# EAGLE library part SL13B-022_BHC1_0 (library SL13B-022_BHC1_0)
Switch: slide; Pos: 2; DPDT; 3A/250VAC; ON-ON; screw,THT; SL13B Source: Datasheet <https://www.tme.eu/pl/details/sl13b-022bhc1/przelaczniki-suwakowe/canal-electronic/sl13b-022-bhc1-0/?brutto=1&currency=PLN&gad_source=1&gclid=CjwKCAjw9IayBhBJEiwAVuc3fiphr7sAuZbLMpQqbNACmQ71f3rW_moSwbT5U9oUsA-n_a2cxSutZhoCkg0QAvD_BwE>
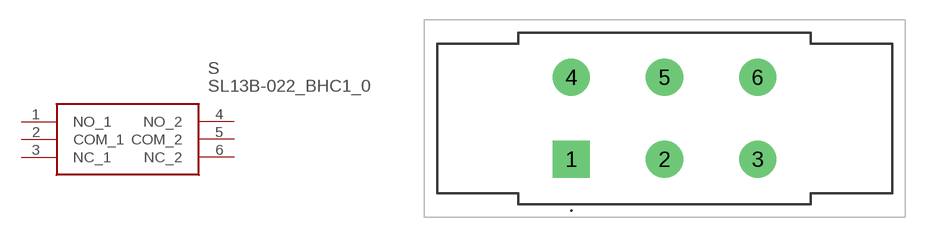
[diagram p0: symbol with the pads of SL13B022BHC10; footprint SL13B022BHC10]

Designator prefix S

## SL13B-022_BHC1_0 (Description: Switch: slide; Pos: 2; DPDT; 3A/250VAC; ON-ON; screw,THT; SL13B; Height: 21.8mm; Manufacturer_Name: CANAL ELECTRONIC; Manufacturer_Part_Number: SL13B-022(BHC1)0)  [SL13B022BHC10]
1  NO_1
2  COM_1
3  NC_1
4  NO_2
5  COM_2
6  NC_2

## Footprint SL13B022BHC10 (pad centres in mm)
SL13B-022(BHC1)0-3
drill 1.9 pad 2.85 square: 1 0,0
drill 1.9 pad 2.85: 2 7.16,0; 3 14.32,0; 4 0,6.3; 5 7.16,6.3; 6 14.32,6.3